# Altium schematic symbol library TSL60.SchLib: 1 symbol
Pins are listed as number, name and electrical type; pins without a type are passive.

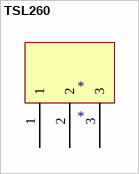
[diagram p0: symbol TSL260]

## TSL260
designator *
footprint TSL260 (TSL260R light to voltage converter)
pins: 1, 2, 3